# EAGLE library part TLV3501AIDBVR (library 2023-12-13_10-40-37_Library)
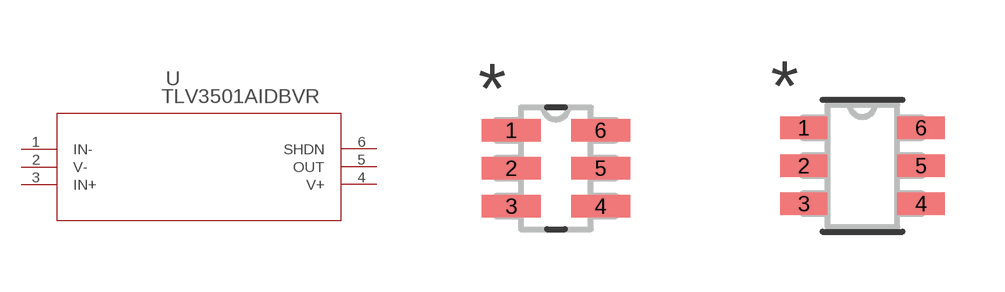
[diagram p0: symbol with the pads of DBV6; footprints DBV6, DBV6-M]

Designator prefix U

## TLV3501AIDBVRDBV6 (Copyright: Copyright (C) 2023 Ultra Librarian. All rights reserved.; Manufacturer_Part_Number: TLV3501AIDBVR; Mfr_Name: Texas Instruments)  [DBV6]
1  IN-  in
2  V-  pwr
3  IN+  in
4  V+  pwr
5  OUT  out
6  SHDN  pas

## TLV3501AIDBVRDBV6-M (Copyright: Copyright (C) 2023 Ultra Librarian. All rights reserved.; Manufacturer_Part_Number: TLV3501AIDBVR; Mfr_Name: Texas Instruments)  [DBV6-M]
Pads as for DBV6

## TLV3501AIDBVRDBV6-L (Copyright: Copyright (C) 2023 Ultra Librarian. All rights reserved.; Manufacturer_Part_Number: TLV3501AIDBVR; Mfr_Name: Texas Instruments)  [DBV6-L]
Pads as for DBV6

## Footprint DBV6 (pad centres in mm)
smd 1.473 x 0.559: 1 -1.118,0.95; 2 -1.118,0; 3 -1.118,-0.95; 4 1.118,-0.95; 5 1.118,0; 6 1.118,0.95

## Footprint DBV6-M (pad centres in mm)
smd 1.181 x 0.559: 1 -1.467,0.95; 2 -1.467,0; 3 -1.467,-0.95; 4 1.467,-0.95; 5 1.467,0; 6 1.467,0.95

## Footprint DBV6-L (pad centres in mm)
smd 0.775 x 0.508: 1 -1.264,0.95; 2 -1.264,0; 3 -1.264,-0.95; 4 1.264,-0.95; 5 1.264,0; 6 1.264,0.95